# Altium footprint library arduinoA8_1x8_CN9.PcbLib: 1 footprints
Each footprint in its own frame and in the unit in brackets; x right, y up, seen from the top. Pads: shape width x height; smd on the part's side, far side on the other; paste and mask are expansions set on the pad; w line width, h text height; cw(c..) or ccw(c..) is an arc to the next point about the centre after c.
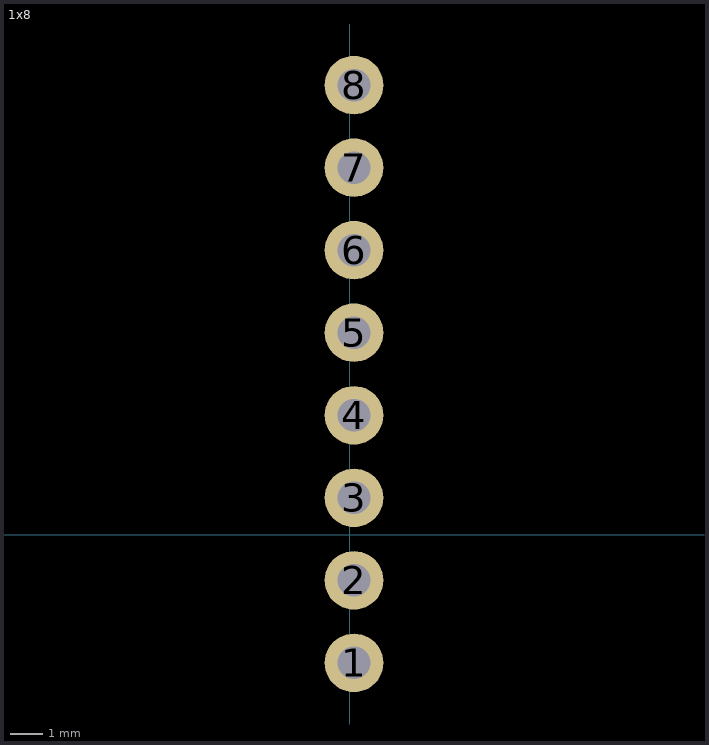
[diagram p0: the footprint, top view; thin cyan lines are the x and y axes]

## 1x8 [mm]
pads (8):
  round 1.8 hole 1: 1(0.127,-3.937) 2(0.127,-1.397) 3(0.127,1.143) 4(0.127,3.683) 5(0.127,6.223) 6(0.127,8.763) 7(0.127,11.303) 8(0.127,13.843)